# Altium integrated library LQG15HS10NG02D.IntLib: 1 symbol
Pins are listed as number, name and electrical type; pins without a type are passive.

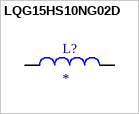
[diagram p0: symbol LQG15HS10NG02D]

## LQG15HS10NG02D
designator L?
MP: LQG15HS10NG02D; Package: None; Price: None; Value: *; Availability: Unavailable
footprint INDC1005X55N
pins: 1, 2